# Altium schematic symbol library РМПЕ1515.Schlib: 1 symbol
Pins are listed as number, name and electrical type; pins without a type are passive.

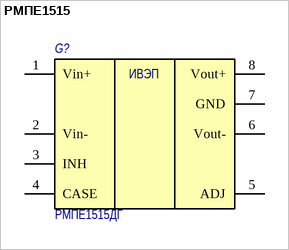
[diagram p0: symbol РМПЕ1515]

## РМПЕ1515
designator G?, comment Наименование: РМПЕ1515ДГ  (hidden comment: RMPE1515ДГ)
ИВЭП 100В - 15В двуканальный; Назначение: ИВИП 100В-15В двуканальный
footprint РМПЕ Р-3
footprint RMPE15ДГ (ИВЭП РМПЕ15ДГ)
pins: 1 Vin+, 2 Vin-, 3 INH, 4 CASE, 5 ADJ, 6 Vout-, 7 GND, 8 Vout+
text: ИВЭП